# Altium footprint library misc.PcbLib: 19 footprints (part 1 of 2)
Each footprint in its own frame and in the unit in brackets; x right, y up, seen from the top. Pads: shape width x height; smd on the part's side, far side on the other; paste and mask are expansions set on the pad; w line width, h text height; cw(c..) or ccw(c..) is an arc to the next point about the centre after c.
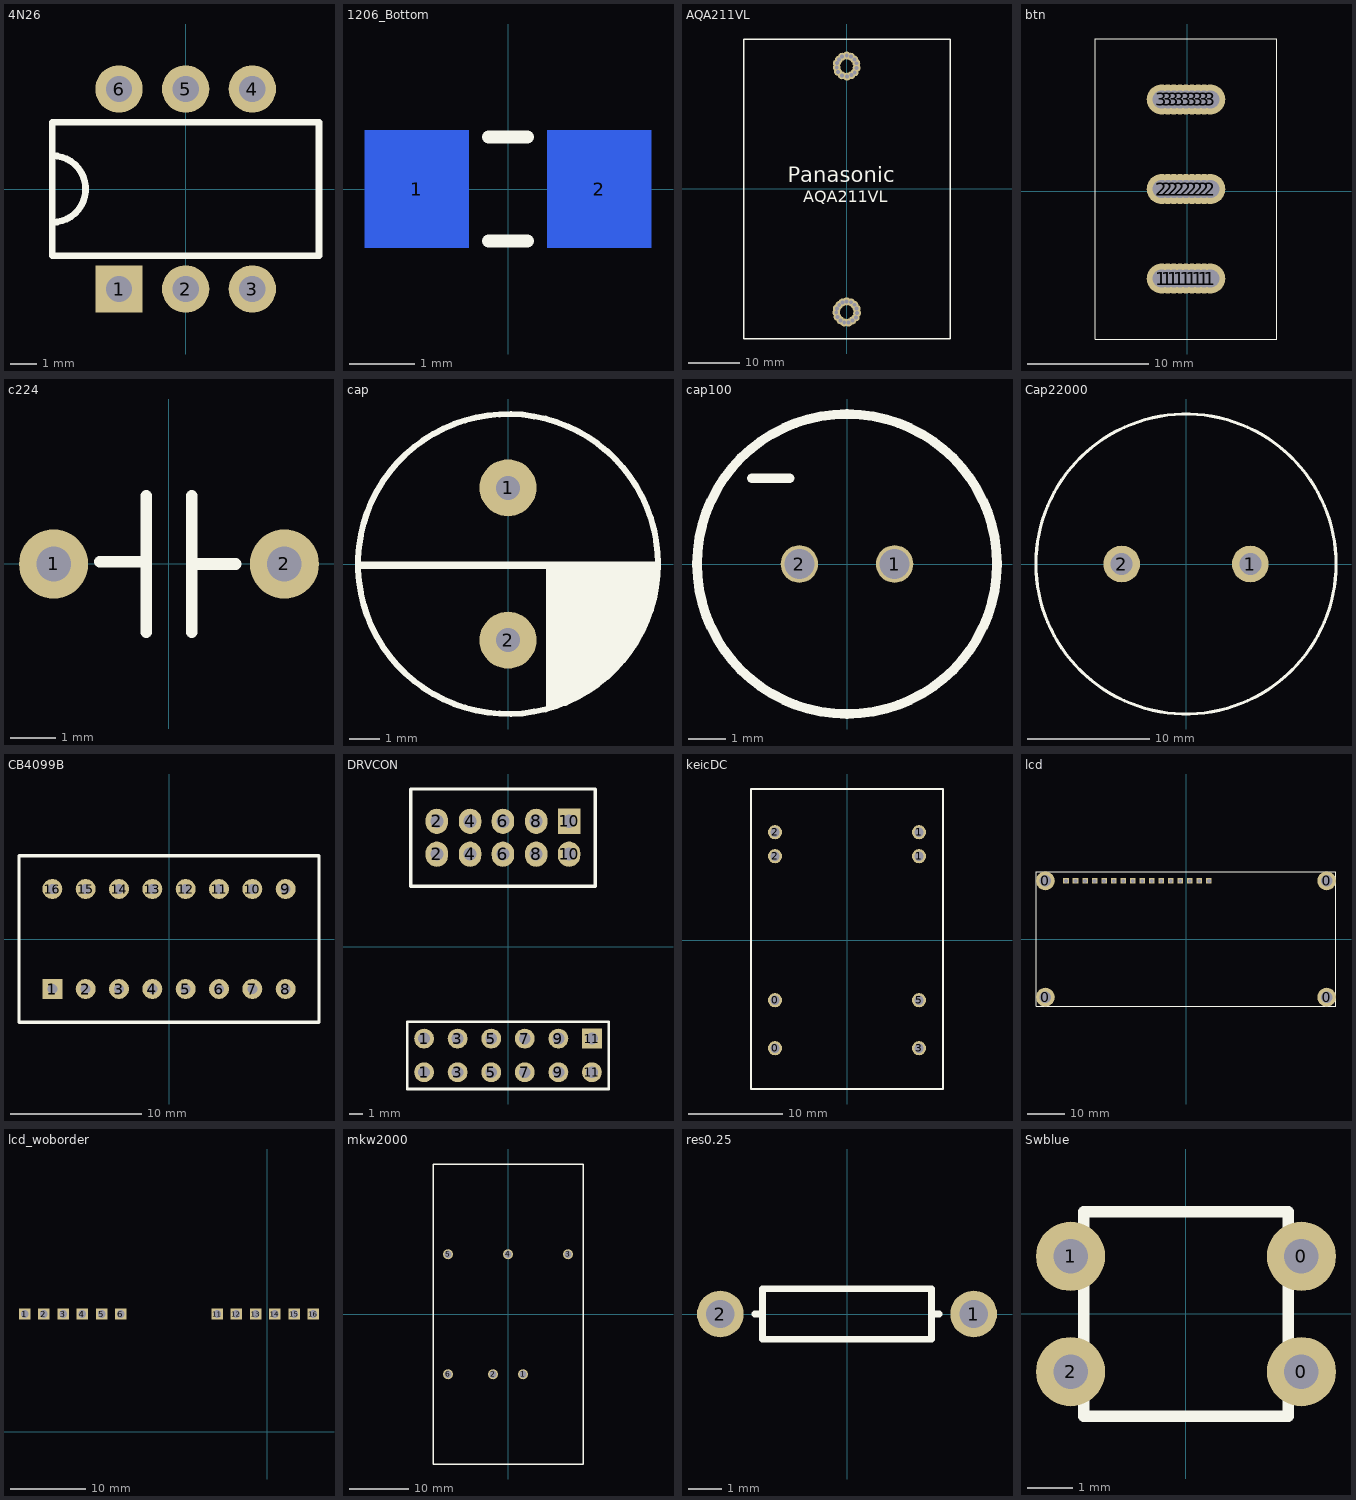
[diagram p0: the footprints below, top view; thin cyan lines are the x and y axes]

## 4N26 [mm]
pads (6):
  rect 1.8x1.8 hole 1: 1(-2.54,-3.81)
  round 1.8 hole 1: 2(0,-3.81) 3(2.54,-3.81) 4(2.54,3.81) 5(0,3.81) 6(-2.54,3.81)
Top Overlay:
  lines w0.254: -5.08,-1.27 ccw(c-5.08,0) -5.08,1.27 ; -5.08,-2.54 5.08,-2.54 5.08,2.54 -5.08,2.54 -5.08,-2.54

## 1206_Bottom [mm]
pads (2):
  rect 1.6x1.8 smd far side: 1(-1.4,0) 2(1.4,0)
Top Overlay:
  lines w0.2: -0.3,-0.8 0.3,-0.8 ; -0.3,0.8 0.3,0.8

## AQA211VL [mil]
height 1004
pads (29):
  round 60 hole 30: 21(-2,1016) 22(30,1007) 23(56,985) 24(71,957) 25(73,921) 26(59,888) 27(33,866) 28(0,855) 29(-39,865) 30(-37,1007) 31(-61,986) 32(-77,958) 33(-78,924) 34(-68,891) 35(-3,-855) 36(30,-862) 37(56,-881) 38(73,-910) 39(77,-944) 40(67,-977) 41(42,-1000) 42(12,-1017) 43(-21,-1016) 44(-49,-1000) 45(-72,-974) 46(-82,-940) 47(-77,-908) 48(-35,-864) 49(-59,-883)
Top Overlay:
  circle w10: c0,935 r82.5
  circle w10: c0,-935 r82.5
  lines w10: -787.5,-1141.5 787.5,-1141.5 787.5,1141.5 -787.5,1141.5 -787.5,-1141.5
  text "AQA211VL" at -332,-131 h150
  text "Panasonic" at -452,15 h200

## btn [mm]
pads (27):
  round 2.5 hole 1.5: 1(-2.095,-7.2) 1(-1.595,-7.2) 1(-1.095,-7.2) 1(-0.595,-7.2) 1(-0.095,-7.2) 1(0.405,-7.2) 1(0.905,-7.2) 1(1.405,-7.2) 1(1.905,-7.2) 2(-2.095,0.2) 2(-1.595,0.2) 2(-1.095,0.2) 2(-0.595,0.2) 2(-0.095,0.2) 2(0.405,0.2) 2(0.905,0.2) 2(1.405,0.2) 2(1.905,0.2) 3(-2.095,7.6) 3(-1.595,7.6) 3(-1.095,7.6) 3(-0.595,7.6) 3(-0.095,7.6) 3(0.405,7.6) 3(0.905,7.6) 3(1.405,7.6) 3(1.905,7.6)
Top Overlay:
  lines w0.1: -7.595,-12.2 7.405,-12.2 7.405,12.6 -7.595,12.6 -7.595,-12.2

## c224 [mil]
height 196.85
pads (2):
  round 60 hole 30: 1(-100,0) 2(100,0)
Top Overlay:
  lines w10: -60,2 -21,2 ; -19.68,-59.06 -19.68,59.06 ; 19.68,-59.06 19.68,59.06 ; 24,0 58,0

## cap [mm]
pads (2):
  round 1.9 hole 0.8: 1(0,2.54) 2(0,-2.54)
Top Overlay:
  circle w0.2: c0,0 r5
  lines w0.254: -4.953,-0.04 4.953,-0.04 ; 1.397,-4.739 1.397,-0.04 ; 1.524,-4.358 2.159,-4.358 1.905,-4.612 1.524,-4.612 1.524,-0.04 ; 1.524,-4.231 2.54,-4.231 ; 1.524,-4.104 2.794,-4.104 ; 1.524,-3.977 2.921,-3.977 ; 1.524,-3.723 3.175,-3.723 3.048,-3.85 1.651,-3.85 ; 1.524,-3.596 3.302,-3.596 ; 1.524,-3.469 3.429,-3.469 3.683,-3.215 ; 1.524,-3.215 3.683,-3.215 ; 1.524,-2.961 3.683,-2.961 4.064,-2.58 ; 1.524,-2.707 3.937,-2.707 4.162,-2.482 ; 1.524,-2.58 4.064,-2.58 ; 1.524,-2.326 4.318,-2.326 4.064,-2.58 ; 1.524,-2.199 4.445,-2.199 ; 1.524,-1.945 4.572,-1.945 ; 1.524,-1.818 4.445,-1.818 ; 1.524,-1.691 4.572,-1.691 ; 1.524,-1.564 4.572,-1.564 ; 1.524,-1.437 4.699,-1.437 ; 1.524,-1.183 4.826,-1.183 ; 1.524,-0.929 4.826,-0.929 ; 1.524,-0.675 4.826,-0.675 ; 1.524,-0.294 4.953,-0.294 ; 2.159,-0.04 2.413,-0.04 ; 3.683,-3.215 4.064,-2.834 4.064,-2.58
  lines w0.265: 1.397,-0.421 4.826,-0.421

## cap100 [mm]
pads (2):
  round 1 hole 0.8: 1(1.27,0) 2(-1.27,0)
Top Overlay:
  circle w0.254: c0,0 r4
  lines w0.254: -2.54,2.286 -1.524,2.286

## Cap22000 [mm]
pads (2):
  round 3 hole 1.8: 1(5.25,0) 2(-5.25,0)
Top Overlay:
  circle w0.254: c0,0 r12.25

## CB4099B [mil]
pads (16):
  rect 60x60 hole 30 square: 1(-350,-150)
  round 60 hole 30: 2(-250,-150) 3(-150,-150) 4(-50,-150) 5(50,-150) 6(150,-150) 7(250,-150) 8(350,-150) 9(350,150) 10(250,150) 11(150,150) 12(50,150) 13(-50,150) 14(-150,150) 15(-250,150) 16(-350,150)
Top Overlay:
  lines w10: -450,-250 450,-250 450,250 -450,250 -450,-250

## DRVCON [mm]
pads (22):
  round 1.5 hole 0.9: 1(-6.35,-9.495) 1(-6.35,-6.955) 3(-3.81,-9.495) 3(-3.81,-6.955) 5(-1.27,-9.495) 5(-1.27,-6.955) 7(1.27,-9.495) 7(1.27,-6.955) 9(3.81,-9.495) 9(3.81,-6.955) 11(6.35,-9.495)
  oval 1.702x1.905 hole 0.991: 2(-5.385,9.495) 2(-5.385,7.006) 4(-2.87,7.006) 4(-2.87,9.495) 6(-0.381,7.006) 6(-0.381,9.495) 8(2.134,7.006) 8(2.134,9.495) 10(4.623,7.006)
  rect 1.702x1.905 hole 0.991: 10(4.623,9.495)
  rect 1.5x1.5 hole 0.9: 11(6.35,-6.955)
Top Overlay:
  lines w0.2: -7.62,-10.765 7.62,-10.765 7.62,-5.685 -7.62,-5.685 -7.62,-10.765
  lines w0.254: -7.366,4.572 6.604,4.572 6.604,11.938 -7.366,11.938 -7.366,4.572

## keicDC [mm]
pads (8):
  round 1.5 hole 1: 0(-7.62,-11.43) 0(-7.62,-6.35) 1(7.62,8.89) 1(7.62,11.43) 2(-7.62,8.89) 2(-7.62,11.43) 3(7.62,-11.43) 5(7.62,-6.35)
Top Overlay:
  lines w0.254: -10.16,-15.748 10.16,-15.748 10.16,16.002 -10.16,16.002 -10.16,-15.748

## lcd [mm] "LCD 2*16"
pads (20):
  round 5 hole 3.1: 0(-37.538,-15.448) 0(-37.538,15.552) 0(37.462,-15.448) 0(37.462,15.552)
  rect 1.5x1.5 hole 1: 1(-32.038,15.552) 2(-29.498,15.552) 3(-26.958,15.552) 4(-24.418,15.552) 5(-21.878,15.552) 6(-19.338,15.552) 7(-16.798,15.552) 8(-14.258,15.552) 9(-11.718,15.552) 10(-9.178,15.552) 11(-6.638,15.552) 12(-4.098,15.552) 13(-1.558,15.552) 14(0.982,15.552) 15(3.522,15.552) 16(6.062,15.552)
Top Overlay:
  lines w0.254: -40.043,18.052 39.962,18.052 39.962,-17.948 -40.038,-17.948 -40.038,18.052

## lcd_woborder [mm]
pads (12):
  rect 1.5x1.5 hole 1: 1(-32.038,15.552) 2(-29.498,15.552) 3(-26.958,15.552) 4(-24.418,15.552) 5(-21.878,15.552) 6(-19.338,15.552) 11(-6.638,15.552) 12(-4.098,15.552) 13(-1.558,15.552) 14(0.982,15.552) 15(3.522,15.552) 16(6.062,15.552)

## mkw2000 [mm] "MinMax"
pads (6):
  round 1.7 hole 1.2: 1(2.54,-10.2) 2(-2.54,-10.2) 3(10.16,10.12) 4(0,10.12) 5(-10.16,10.12) 6(-10.16,-10.2)
Top Overlay:
  lines w0.254: -12.7,-25.4 12.7,-25.4 12.7,25.4 -12.7,25.4 -12.7,-25.4

## res0.25 [mm]
height 2
pads (2):
  round 1.4 hole 0.85: 1(3.81,0) 2(-3.81,0)
Top Overlay:
  lines w0.2: -2.769,0 -2.54,0 ; 2.54,0 2.769,0 ; -2.54,0 -2.54,-0.762 2.54,-0.762 2.54,0.762 -2.54,0.762 -2.54,0

## Swblue [mil]
height 78.74
pads (4):
  round 60 hole 30: 0(100,-50) 0(100,50) 1(-100,50) 2(-100,-50)
Top Overlay:
  lines w10: -88.58,-88.58 88.58,-88.58 88.58,88.58 -88.58,88.58 -88.58,-88.58